# EAGLE library part JTAG-20_DEVICE (library jtag)
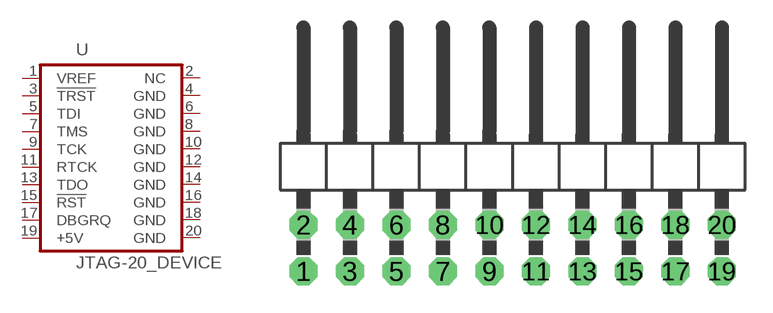
[diagram p0: symbol with the pads of 2X10/90; footprint 2X10/90]

Designator prefix -

## JTAG-20_DEVICE  [2X10/90]
1  VREF  pas
2  NC  nc
3  !TRST  out
4  GND  pas
5  TDI  out
6  GND  pas
7  TMS  out
8  GND  pas
9  TCK  out
10  GND  pas
11  RTCK  in
12  GND  pas
13  TDO  in
14  GND  pas
15  !RST  out
16  GND  pas
17  DBGRQ  pas
18  GND  pas
19  +5V  pas
20  GND  pas

## Footprint 2X10/90 (pad centres in mm)
PIN HEADER
drill 1.016 octagon: 1 -11.43,-6.35; 2 -11.43,-3.81; 3 -8.89,-6.35; 4 -8.89,-3.81; 5 -6.35,-6.35; 6 -6.35,-3.81; 7 -3.81,-6.35; 8 -3.81,-3.81; 9 -1.27,-6.35; 10 -1.27,-3.81; 11 1.27,-6.35; 12 1.27,-3.81; 13 3.81,-6.35; 14 3.81,-3.81; 15 6.35,-6.35; 16 6.35,-3.81; 17 8.89,-6.35; 18 8.89,-3.81; 19 11.43,-6.35; 20 11.43,-3.81